# Altium footprint library GPSR_v3.PcbLib: 33 footprints (part 3 of 3)
Each footprint in its own frame and in the unit in brackets; x right, y up, seen from the top. Pads: shape width x height; smd on the part's side, far side on the other; paste and mask are expansions set on the pad; w line width, h text height; cw(c..) or ccw(c..) is an arc to the next point about the centre after c.
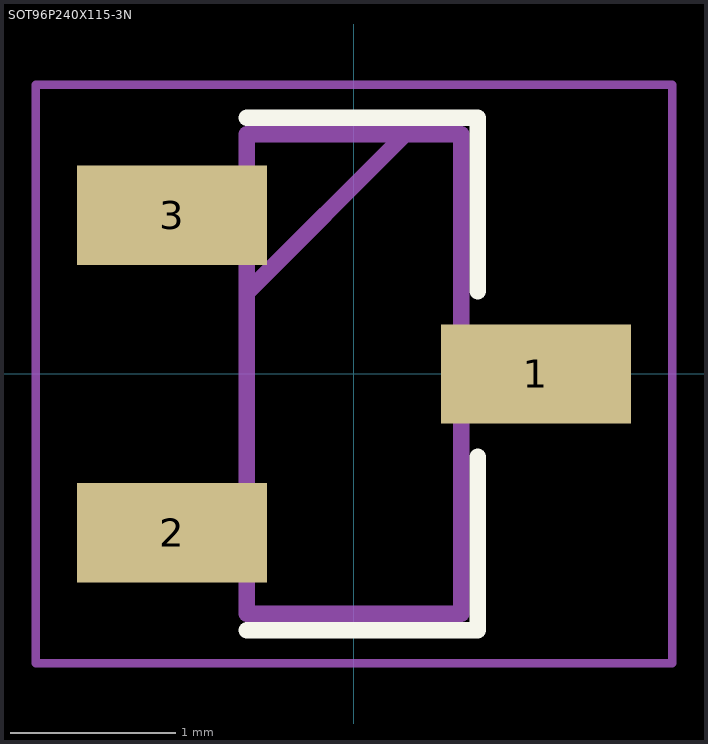
[diagram p2: the footprint, top view; thin cyan lines are the x and y axes]

## SOT96P240X115-3N [mm]
height 7.2
pads (3):
  rect 1.15x0.6 smd: 1(1.1,0) 2(-1.1,-0.96) 3(-1.1,0.96)
Top Overlay:
  lines w0.1: -0.65,-1.55 0.75,-1.55 0.75,-0.5 ; -0.65,1.55 0.75,1.55 0.75,0.5
Mechanical 13:
  lines w0.1: -0.65,0.49 0.31,1.45 ; -0.65,-1.45 -0.65,1.45 0.65,1.45 0.65,-1.45 -0.65,-1.45
Mechanical 15:
  lines w0.05: -1.925,-1.75 -1.925,1.75 1.925,1.75 1.925,-1.75 -1.925,-1.75
3D body: height 1.1, standoff 0, extent -1.326,-1.5 1.326,1.5